# Altium footprint library SII Semiconductors.PcbLib: 1 footprints
Each footprint in its own frame and in the unit in brackets; x right, y up, seen from the top. Pads: shape width x height; smd on the part's side, far side on the other; paste and mask are expansions set on the pad; w line width, h text height; cw(c..) or ccw(c..) is an arc to the next point about the centre after c.
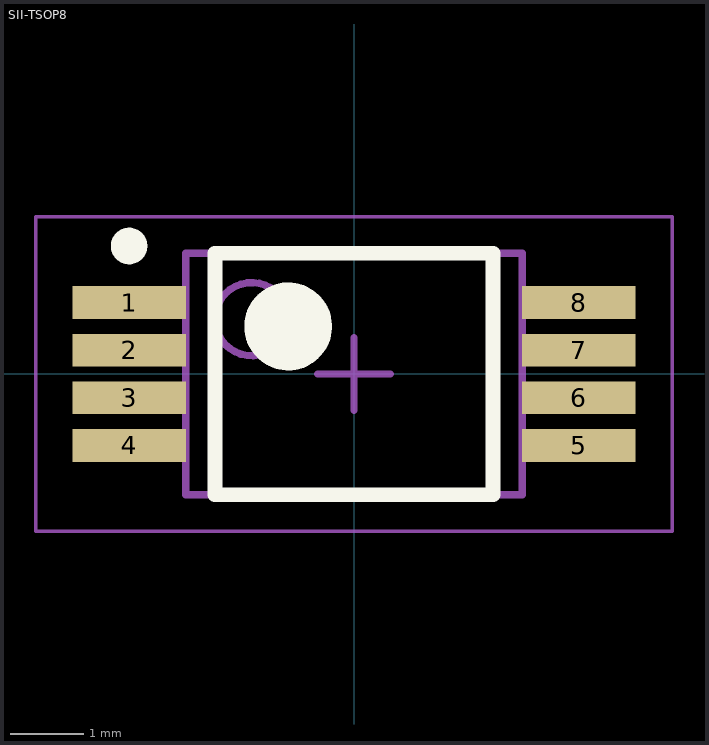
[diagram p0: the footprint, top view; thin cyan lines are the x and y axes]

## SII-TSOP8 [mm] "TSOP, 8-Leads, Body 3.05x4.40mm, Pitch 0.65mm, IPC Low Density"
height 1.1
pads (8):
  rect 1.55x0.45 smd: 1(-3.075,0.975) 2(-3.075,0.325) 3(-3.075,-0.325) 4(-3.075,-0.975) 5(3.075,-0.975) 6(3.075,-0.325) 7(3.075,0.325) 8(3.075,0.975)
Top Overlay:
  circle w0.25: c-3.075,1.75 r0.125
  circle w0.6: c-0.9,0.65 r0.3
  lines w0.2: -1.9,-1.65 -1.9,1.65 1.9,1.65 1.9,-1.65 -1.9,-1.65
Mechanical 13:
  circle w0.1: c-1.4,0.75 r0.5
  lines w0.1: -2.3,-1.65 -2.3,1.65 2.3,1.65 2.3,-1.65 -2.3,-1.65
Mechanical 15:
  lines w0.05: -4.35,-2.15 -4.35,2.15 4.35,2.15 4.35,-2.15 -4.35,-2.15
  lines w0.1: -0.5,0 0.5,0 ; 0,-0.5 0,0.5
3D body: height 1.1, standoff 0, extent -2.3,-1.65 2.3,1.65